# Altium schematic symbol library ADA4891-4.Schlib: 1 symbol
Pins are listed as number, name and electrical type; pins without a type are passive.

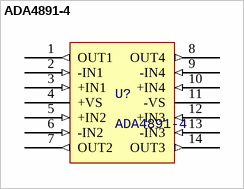
[diagram p0: symbol ADA4891-4]

## ADA4891-4
designator U?
Op-amps
footprint SOP65P640X120-14N (SOP + Pitch P + Lead Span Nominal X Height - #Pins)
pins: 1 OUT1 (out), 2 -IN1 (in), 3 +IN1 (in), 4 +VS (power), 5 +IN2 (in), 6 -IN2 (in), 7 OUT2 (out), 8 OUT4 (out), 9 -IN4 (in), 10 +IN4 (in), 11 -VS (power), 12 +IN3 (in), 13 -IN3 (in), 14 OUT3 (out)